# EAGLE library part MCP3426 (library components)
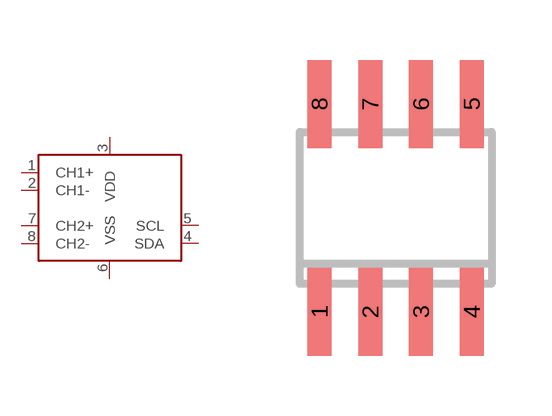
[diagram p0: symbol with the pads of SO08; footprint SO08]

Designator prefix -

## MCP3426  [SO08]
1  CH1+
2  CH1-
3  VDD
4  SDA
5  SCL
6  VSS
7  CH2+
8  CH2-

## Footprint SO08 (pad centres in mm)
smd 0.6 x 2.2: 1 -1.905,-2.6; 2 -0.635,-2.6; 3 0.635,-2.6; 4 1.905,-2.6; 5 1.905,2.6; 6 0.635,2.6; 7 -0.635,2.6; 8 -1.905,2.6